# Altium footprint library BOURNS_3386W.PcbLib: 1 footprints
Each footprint in its own frame and in the unit in brackets; x right, y up, seen from the top. Pads: shape width x height; smd on the part's side, far side on the other; paste and mask are expansions set on the pad; w line width, h text height; cw(c..) or ccw(c..) is an arc to the next point about the centre after c.
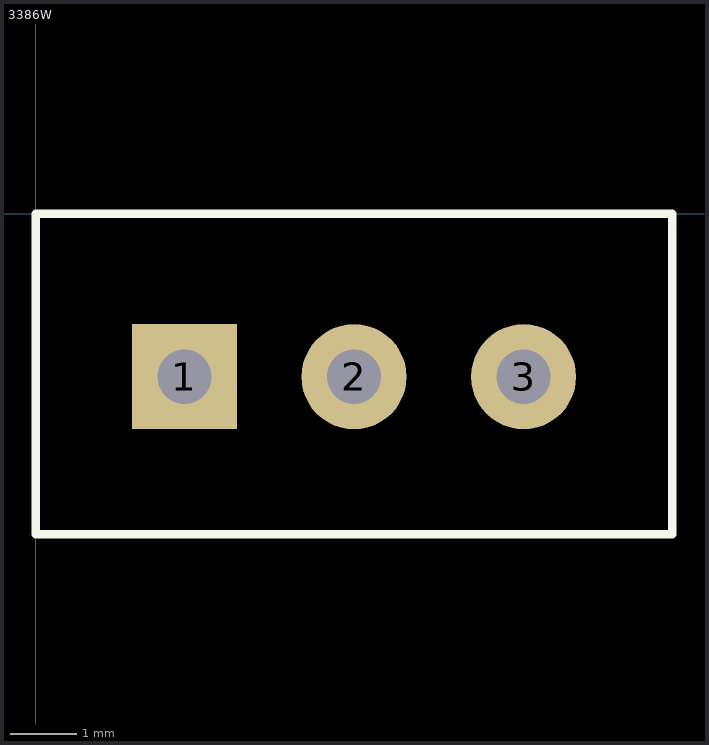
[diagram p0: the footprint, top view; thin cyan lines are the x and y axes]

## 3386W [mil]
pads (3):
  rect 62x62 hole 32: 1(87.6,-96.06)
  round 62 hole 32: 2(187.6,-96.06) 3(287.6,-96.06)
Top Overlay:
  lines w5: 0,-188.98 375.2,-188.98 375.2,0 0,0 0,-188.98
3D body: height 375.2, standoff -196.85, extent 1,-190.06 376.2,0.09